# Altium footprint library BulbCommander.PcbLib: 24 footprints (part 2 of 2)
Each footprint in its own frame and in the unit in brackets; x right, y up, seen from the top. Pads: shape width x height; smd on the part's side, far side on the other; paste and mask are expansions set on the pad; w line width, h text height; cw(c..) or ccw(c..) is an arc to the next point about the centre after c.
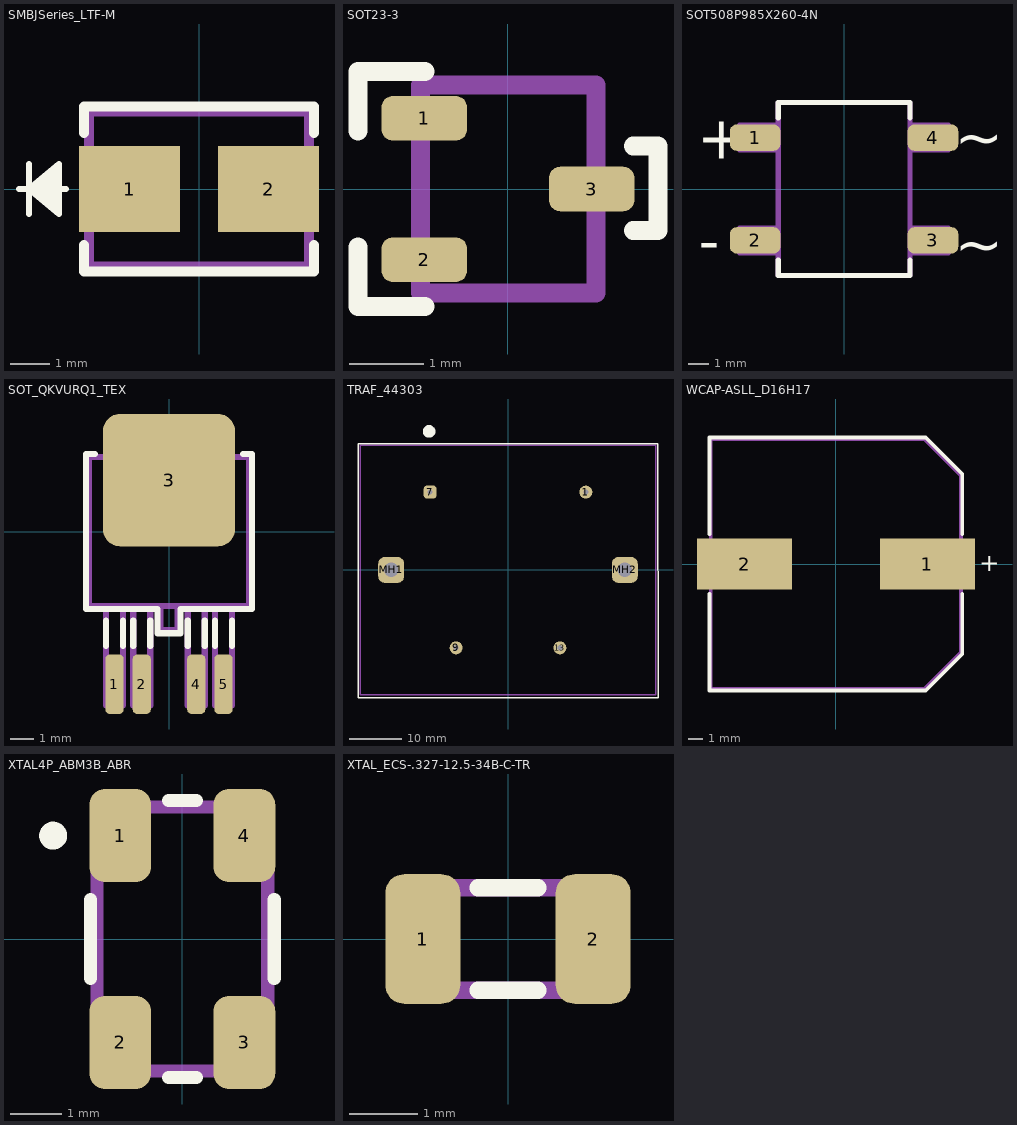
[diagram p1: the footprints below, top view; thin cyan lines are the x and y axes]

## SMBJSeries_LTF-M [mil]
pads (2):
  rect 101x86 smd paste+0 mask+0: 1(-69.5,0) 2(69.5,0)
Top Overlay:
  lines w6: -180,0 -133.1,0 ; -170,-25 -170,25 ; -140,-20 -170,0 ; -140,-15 -170,0 ; -140,-10 -170,0 ; -140,-5 -170,0 ; -140,5 -170,0 ; -140,10 -170,0 ; -140,15 -170,0 ; -140,20 -170,0 ; -170,0 -140,25 -140,-25 -170,0
  lines w10: -115,-56.1 -115,-82.5 115,-82.5 115,-56.1 ; -115,56.1 -115,82.5 115,82.5 115,56.1
Top Assembly:
  lines w10: -110,-77.5 110,-77.5 110,77.5 -110,77.5 -110,-77.5
  text ".Designator" at -70.74,-12.09 h39.37
3D body "SMBJSeries_LTF.step": height 97.99, standoff 0, extent -110,-77.48 110,77.48

## SOT23-3 [mm]
pads (3):
  rrect50% 1.15x0.6 smd: 1(-1.125,0.95) 2(-1.125,-0.95) 3(1.125,0)
Top Overlay:
  lines w0.254: -2.015,-0.779 -2.015,-1.579 -1.115,-1.579 ; -2.015,0.779 -2.015,1.579 -1.115,1.579 ; 1.682,-0.557 2.015,-0.557 2.015,0.579 1.682,0.579
  text "." at -2.941,1.725 h1.52
Top Assembly:
  lines w0.254: -1.176,-1.4 1.185,-1.4 1.185,1.4 -1.176,1.4 -1.176,-1.4
  text ".Designator" at -3.797,-0.407 h1
3D body "CircuitWorks-SOT-23.step": height 1.1, standoff 0, extent -1.25,-1.5 1.25,1.5

## SOT508P985X260-4N [mm]
pads (4):
  rrect50% 2.5x1.3 smd: 1(-4.394,2.54) 2(-4.394,-2.54) 3(4.394,-2.54) 4(4.394,2.54)
Top Overlay:
  lines w0.254: -3.251,-3.505 -3.251,-4.267 3.251,-4.267 3.251,-3.505 ; -3.251,3.505 -3.251,4.267 -0.305,4.267 0.305,4.267 3.251,4.267 3.251,3.505
  text "+" at -7.269,1.5 h2.08
  text "-" at -7.194,-3.559 h2.08
  text "~" at 5.471,1.552 h2.09
  text "~" at 5.467,-3.738 h2.08
Top Assembly:
  lines w0.254: -5.156,-3.15 -5.156,-1.93 -3.251,-1.93 -3.251,-3.15 -5.156,-3.15 ; -5.156,1.93 -5.156,3.15 -3.251,3.15 -3.251,1.93 -5.156,1.93 ; -3.251,-4.267 -3.251,4.267 -0.305,4.267 0.305,4.267 3.251,4.267 3.251,-4.267 -3.251,-4.267 ; 3.251,-3.15 3.251,-1.93 5.156,-1.93 5.156,-3.15 3.251,-3.15 ; 3.251,1.93 3.251,3.15 5.156,3.15 5.156,1.93 3.251,1.93
  text ".Designator" at -3.397,-0.407 h1
  text "~" at 1.263,0.401 h2.08
  text "~" at 1.262,-4.96 h2.08
  text "+" at -2.77,1.549 h2.08
  text "-" at -2.697,-3.486 h2.09
3D body "DF01S-T.stp": height 2.93, standoff 0, extent -5.2,-4.16 5.2,4.16

## SOT_QKVURQ1_TEX [mil]
pads (5):
  rrect50% 30x98 smd paste+0 mask+0: 1(-89.76,-251.5) 2(-44.88,-251.5) 4(44.88,-251.5) 5(89.76,-251.5)
  rrect25% 217x218 smd paste+0 mask+0: 3(0,84.5)
Top Overlay:
  lines w10: -121.6,127.5 -137,127.5 -137,-127.5 -19,-127.5 -19,-167.5 19,-167.5 19,-127.5 137,-127.5 137,127.5 121.6,127.5 ; -103.76,-188.5 -103.76,-146.5 ; -75.76,-188.5 -75.76,-146.5 ; -58.88,-188.5 -58.88,-146.5 ; -30.88,-188.5 -30.88,-146.5 ; 30.88,-188.5 30.88,-146.5 ; 58.88,-188.5 58.88,-146.5 ; 75.76,-188.5 75.76,-146.5 ; 103.76,-188.5 103.76,-146.5
  text "." at -141.73,-279.53 h50
Top Assembly:
  lines w10: -132,-122.5 -132,122.5 132,122.5 132,-122.5 -132,-122.5 ; -103.76,-286.5 -103.76,-122.5 -75.76,-122.5 -75.76,-286.5 -103.76,-286.5 ; -58.88,-286.5 -30.88,-286.5 -30.88,-122.5 -58.88,-122.5 -58.88,-286.5 ; -14,-162.5 -14,-122.5 14,-122.5 14,-162.5 -14,-162.5 ; 30.88,-286.5 58.88,-286.5 58.88,-122.5 30.88,-122.5 30.88,-286.5 ; 75.76,-286.5 103.76,-286.5 103.76,-122.5 75.76,-122.5 75.76,-286.5
  text ".Designator" at -149.48,-16.03 h39.37
3D body "SOT_QKVURQ1_TEX.step": height 94.09, standoff -2.01, extent -132.01,-286.5 132.01,172.52

## TRAF_44303 [mm]
pads (6):
  round 2.5 hole 1: 1(15,15) 9(-10,-15) 13(10,-15)
  rrect50% 2.5x2.5 hole 1: 7(-15,15)
  rrect50% 5x5 hole 2.8 unplated: MH1(-22.5,0) MH2(22.5,0)
Top Overlay:
  circle w2: c-15.2,26.7 r0.2
  lines w0.254: -28.9,-24.6 28.9,-24.6 28.9,24.3 -28.9,24.3 -28.9,-24.6
Top Assembly:
  lines w0.254: -28.5,-24 -28.5,24 28.5,24 28.5,-24 -28.5,-24
  text ".Designator" at -3.297,-0.207 h1
3D body: height 40, standoff 0, extent -28.5,-24 28.5,24

## WCAP-ASLL_D16H17 [mm] "Aluminium Electrolytic V-Chip SMT Capacitors, 16x17mm"
height 17
pads (2):
  rect 6.5x3.5 smd: 1(6.25,0) 2(-6.25,0)
Top Overlay:
  lines w0.254: -8.65,-2.05 -8.65,-8.65 6.15,-8.65 8.65,-6.15 8.65,-2.05 ; -8.65,2.05 -8.65,8.65 6.15,8.65 8.65,6.15 8.65,2.05
  text "+" at 9.8,-0.5 h1.22
Top Assembly:
  lines w0.254: -8.55,-8.55 6.05,-8.55 8.55,-6.05 8.55,6.05 6.05,8.55 -8.55,8.55 -8.55,-8.55
  text ".Designator" at -3.397,-0.307 h1
3D body "16x17x7_new.stp": height 17.05, standoff 0.05, extent -9.15,-8.5 9.15,8.5

## XTAL4P_ABM3B_ABR [mm]
pads (4):
  rrect50% 1.194x1.803 smd paste+0 mask+0: 1(-1.2,2) 2(-1.2,-2) 3(1.2,-2) 4(1.2,2)
Top Overlay:
  circle w0.3: c-2.5,2 r0.12
  lines w0.254: -1.778,-0.766 -1.778,0.766 ; -0.27,-2.68 0.27,-2.68 ; -0.27,2.68 0.27,2.68 ; 1.778,-0.766 1.778,0.766
Top Assembly:
  lines w0.254: -1.651,-2.553 -1.651,2.553 1.651,2.553 1.651,-2.553 -1.651,-2.553
  text ".Designator" at -2.847,-0.457 h1
3D body "XTAL4P_ABM3B_ABR.step": height 1.09, standoff 0, extent -1.651,-2.553 1.651,2.553

## XTAL_ECS-.327-12.5-34B-C-TR [mm]
pads (2):
  rrect50% 1.1x1.9 smd: 1(-1.25,0) 2(1.25,0)
Top Overlay:
  lines w0.254: -0.44,-0.75 0.44,-0.75 ; -0.44,0.75 0.44,0.75
Top Assembly:
  lines w0.254: -1.6,-0.75 1.6,-0.75 1.6,0.75 -1.6,0.75 -1.6,-0.75
  text ".Designator" at -2.797,-0.207 h1
3D body "step_temp.STEP": height 0.9, standoff 0, extent -1.6,-0.75 1.6,0.75